# EAGLE library part LCD-2X20 (library oli)
LCD 2 x 20 Characters Reichelt LCD 202A BL
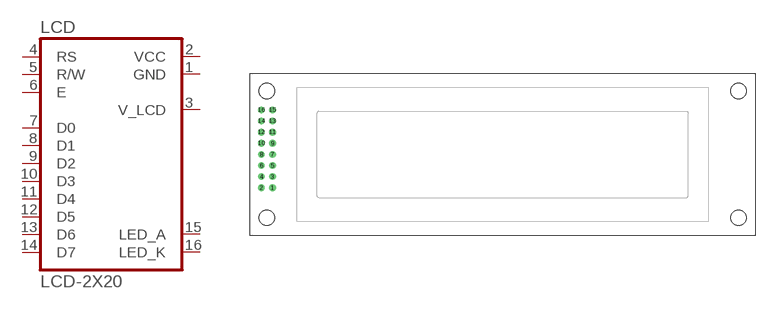
[diagram p4: symbol with the pads of LCD-2X20; footprint LCD-2X20]

Designator prefix LCD

## LCD-2X20  [LCD-2X20]
1  GND  pwr
2  VCC  pwr
3  V_LCD  pas
4  RS  in
5  R/W  in
6  E  in
7  D0
8  D1
9  D2
10  D3
11  D4
12  D5
13  D6
14  D7
15  LED_A  pas
16  LED_K  pas

## Footprint LCD-2X20 (pad centres in mm)
drill 1.016: 1 -52.705,-7.62; 2 -55.245,-7.62; 3 -52.705,-5.08; 4 -55.245,-5.08; 5 -52.705,-2.54; 6 -55.245,-2.54; 7 -52.705,0; 8 -55.245,0; 9 -52.705,2.54; 10 -55.245,2.54; 11 -52.705,5.08; 12 -55.245,5.08; 13 -52.705,7.62; 14 -55.245,7.62; 15 -52.705,10.16; 16 -55.245,10.16
hole 3.5 at -54,-14.5
hole 3.5 at -54,14.5
hole 3.5 at 54,14.5
hole 3.5 at 54,-14.5